# Altium schematic symbol library PJ-031D.SchLib: 1 symbol
Pins are listed as number, name and electrical type; pins without a type are passive.

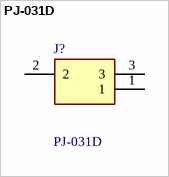
[diagram p0: symbol PJ-031D]

## PJ-031D
designator J?
DC Power Connectors Power Jacks; Manufacturer_Name: CUI Devices; Geometry.Height: 7.6mm; Mouser Part Number: 490-PJ-031D; Mouser Price/Stock: https://www.mouser.co.uk/ProductDetail/CUI-Devices/PJ-031D?qs=WyjlAZoYn50d9FnDq%252BXSgg%3D%3D; Manufacturer_Part_Number: PJ-031D; Datasheet Link: https://www.cuidevices.com/product/resource/pdf/pj-031d.pdf
footprint PJ031D
pins: 1, 2, 3